# Altium integrated library AD8221BR.IntLib: 1 symbol
Pins are listed as number, name and electrical type; pins without a type are passive.

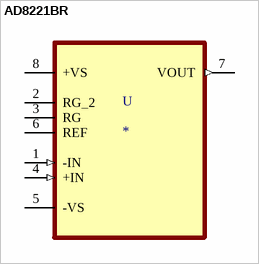
[diagram p0: symbol AD8221BR]

## AD8221BR
designator U
Instrumentation Amplifier 1 Circuit 8-SOIC; MF: Analog Devices; MP: AD8221BR; Package: SOIC-8 Analog Devices; Availability: Unavailable; Value: *; SnapEDA_Link: https://www.snapeda.com/parts/AD8221BR/Analog%20Devices%20Inc./view-part/82856/?ref=snap; Price: None
footprint SOIC127P600X175-8N
pins: 1 -IN (in), 2 RG_2, 3 RG, 4 +IN (in), 5 -VS (power), 6 REF, 7 VOUT (out), 8 +VS (power)